# Altium footprint library QFN-64-EP.PcbLib: 1 footprints
Each footprint in its own frame and in the unit in brackets; x right, y up, seen from the top. Pads: shape width x height; smd on the part's side, far side on the other; paste and mask are expansions set on the pad; w line width, h text height; cw(c..) or ccw(c..) is an arc to the next point about the centre after c.
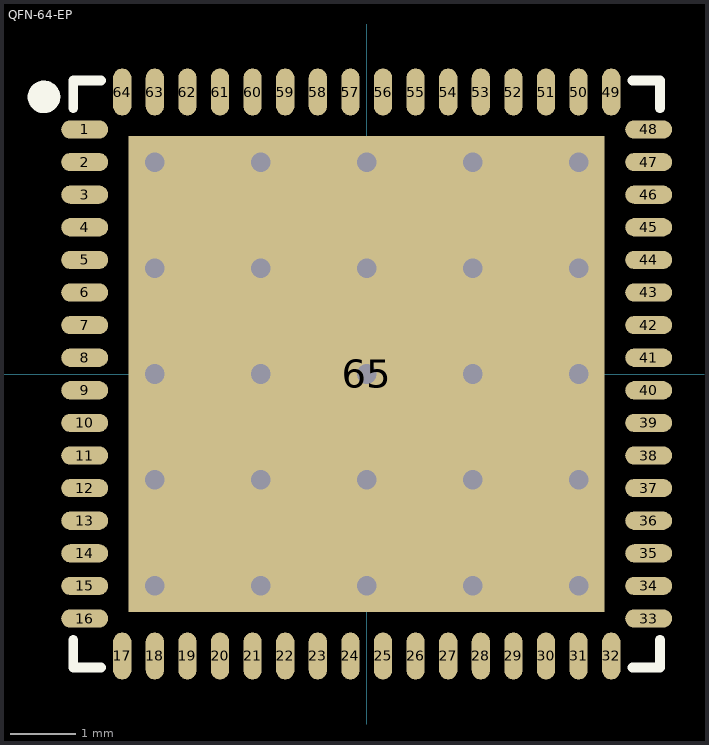
[diagram p0: the footprint, top view; thin cyan lines are the x and y axes]

## QFN-64-EP [mm]
pads (65):
  oval 0.72x0.28 smd mask+0.05: 1(-4.325,3.75) 2(-4.325,3.25) 3(-4.325,2.75) 4(-4.325,2.25) 5(-4.325,1.75) 6(-4.325,1.25) 7(-4.325,0.75) 8(-4.325,0.25) 9(-4.325,-0.25) 10(-4.325,-0.75) 11(-4.325,-1.25) 12(-4.325,-1.75) 13(-4.325,-2.25) 14(-4.325,-2.75) 15(-4.325,-3.25) 16(-4.325,-3.75) 33(4.325,-3.75) 34(4.325,-3.25) 35(4.325,-2.75) 36(4.325,-2.25) 37(4.325,-1.75) 38(4.325,-1.25) 39(4.325,-0.75) 40(4.325,-0.25) 41(4.325,0.25) 42(4.325,0.75) 43(4.325,1.25) 44(4.325,1.75) 45(4.325,2.25) 46(4.325,2.75) 47(4.325,3.25) 48(4.325,3.75)
  oval 0.28x0.72 smd mask+0.05: 17(-3.75,-4.325) 18(-3.25,-4.325) 19(-2.75,-4.325) 20(-2.25,-4.325) 21(-1.75,-4.325) 22(-1.25,-4.325) 23(-0.75,-4.325) 24(-0.25,-4.325) 25(0.25,-4.325) 26(0.75,-4.325) 27(1.25,-4.325) 28(1.75,-4.325) 29(2.25,-4.325) 30(2.75,-4.325) 31(3.25,-4.325) 32(3.75,-4.325) 49(3.75,4.325) 50(3.25,4.325) 51(2.75,4.325) 52(2.25,4.325) 53(1.75,4.325) 54(1.25,4.325) 55(0.75,4.325) 56(0.25,4.325) 57(-0.25,4.325) 58(-0.75,4.325) 59(-1.25,4.325) 60(-1.75,4.325) 61(-2.25,4.325) 62(-2.75,4.325) 63(-3.25,4.325) 64(-3.75,4.325)
  rect 7.3x7.3 smd: 65(0,0)
via 0,1.625 diameter 0.6 hole 0.3
via -1.625,1.625 diameter 0.6 hole 0.3
via -1.625,0 diameter 0.6 hole 0.3
via -1.625,-1.625 diameter 0.6 hole 0.3
via 0,0 diameter 0.6 hole 0.3
via 0,-1.625 diameter 0.6 hole 0.3
via 1.625,-1.625 diameter 0.6 hole 0.3
via 1.625,0 diameter 0.6 hole 0.3
via 1.625,1.625 diameter 0.6 hole 0.3
via -3.25,-1.625 diameter 0.6 hole 0.3
via -3.25,1.625 diameter 0.6 hole 0.3
via -1.625,3.25 diameter 0.6 hole 0.3
via 1.625,3.25 diameter 0.6 hole 0.3
via 3.25,1.625 diameter 0.6 hole 0.3
via 3.25,-1.625 diameter 0.6 hole 0.3
via 1.625,-3.25 diameter 0.6 hole 0.3
via -1.625,-3.25 diameter 0.6 hole 0.3
via 0,-3.25 diameter 0.6 hole 0.3
via 0,3.25 diameter 0.6 hole 0.3
via 3.25,0 diameter 0.6 hole 0.3
via -3.25,0 diameter 0.6 hole 0.3
via -3.25,-3.25 diameter 0.6 hole 0.3
via 3.25,-3.25 diameter 0.6 hole 0.3
via 3.25,3.25 diameter 0.6 hole 0.3
via -3.25,3.25 diameter 0.6 hole 0.3
Top Overlay:
  circle w0.25: c-4.95,4.25 r0.125
  lines w0.15: -4.5,-4.075 -4.5,-4.5 -4.075,-4.5 ; -4.5,4.075 -4.5,4.5 -4.075,4.5 ; 4.075,-4.5 4.5,-4.5 4.5,-4.075 ; 4.075,4.5 4.5,4.5 4.5,4.075
3D body: height 0.85, standoff 0, extent -4.5,-4.5 4.5,4.5